# EAGLE library part DMC2038LVT (library FETs)
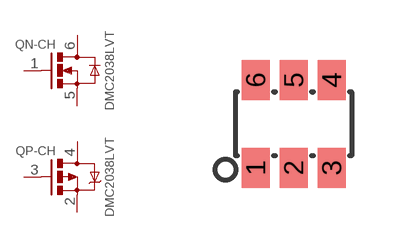
[diagram p0: symbol with the pads of TSOT26; footprint TSOT26]

Designator prefix Q; gates N-CH=N-CH P-CH=P-CH

## DMC2038LVT  [TSOT26]
1  N-CH:G  pas
2  P-CH:S  pas
3  P-CH:G  pas
4  P-CH:D  pas
5  N-CH:S  pas
6  N-CH:D  pas

## Footprint TSOT26 (pad centres in mm)
smd 0.7 x 1: 1 -0.95,-1.1; 2 0,-1.1; 3 0.95,-1.1; 4 0.95,1.1; 5 0,1.1; 6 -0.95,1.1